# Altium footprint library MSS1P2L.PcbLib: 1 footprints
Each footprint in its own frame and in the unit in brackets; x right, y up, seen from the top. Pads: shape width x height; smd on the part's side, far side on the other; paste and mask are expansions set on the pad; w line width, h text height; cw(c..) or ccw(c..) is an arc to the next point about the centre after c.
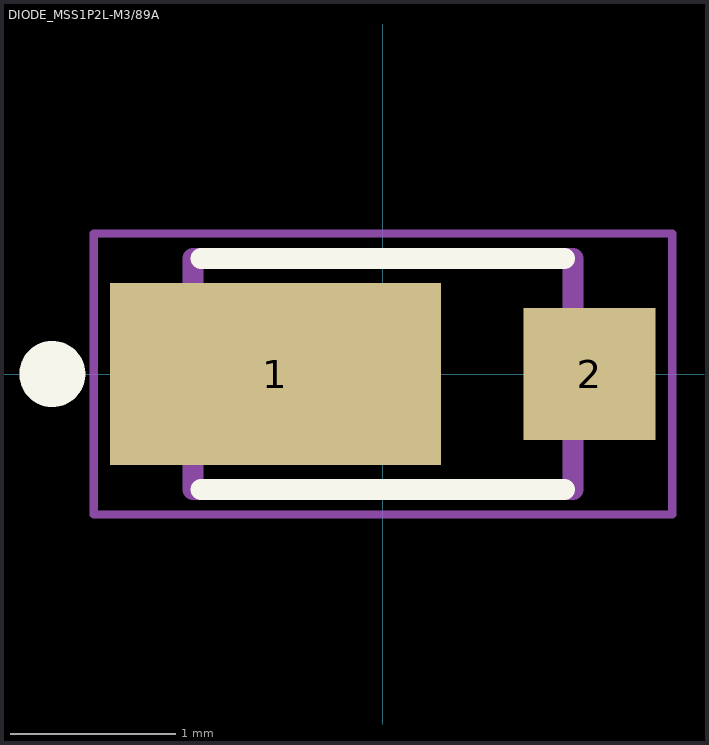
[diagram p0: the footprint, top view; thin cyan lines are the x and y axes]

## DIODE_MSS1P2L-M3/89A [mm]
pads (2):
  rect 2x1.1 smd: 1(-0.65,0)
  rect 0.8x0.8 smd: 2(1.25,0)
Top Overlay:
  circle w0.2: c-2,0 r0.1
  lines w0.127: -1.1,-0.7 1.1,-0.7 ; -1.1,0.7 1.1,0.7
Mechanical 13:
  lines w0.127: -1.15,-0.7 -1.15,0.7 1.15,0.7 1.15,-0.7 -1.15,-0.7
Mechanical 15:
  lines w0.05: -1.75,-0.85 -1.75,0.85 1.75,0.85 1.75,-0.85 -1.75,-0.85